# Altium schematic symbol library SLIDESWITCH_SP3T_ON-OFF-ON.Schlib: 1 symbol
Pins are listed as number, name and electrical type; pins without a type are passive.

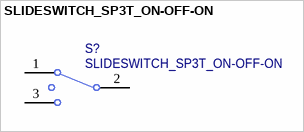
[diagram p0: symbol SLIDESWITCH_SP3T_ON-OFF-ON]

## SLIDESWITCH_SP3T_ON-OFF-ON
designator S?
pins: 1, 2, 3